# EAGLE library part LED-BAR-GRAPH-10 (library 0_jc-custom-eagle6)
This part is for 10 Segment LED Displays that fit in a dip20 300 mail package.
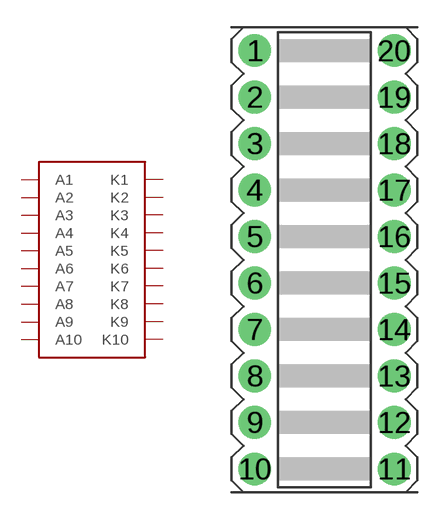
[diagram p1: symbol with the pads of DIP20-0300; footprint DIP20-0300]

Designator prefix STD

## LED-BAR-GRAPH-1010, LED-BAR-GRAPH-10STD10  [DIP20-0300]
1  A1
2  A2
3  A3
4  A4
5  A5
6  A6
7  A7
8  A8
9  A9
10  A10
11  K10
12  K9
13  K8
14  K7
15  K6
16  K5
17  K4
18  K3
19  K2
20  K1

## Footprint DIP20-0300 (pad centres in mm)
Dip 20 300 mil Primarily for LED Bar graph units
drill 0.8 pad 1.778: 1 -3.81,11.43; 2 -3.81,8.89; 3 -3.81,6.35; 4 -3.81,3.81; 5 -3.81,1.27; 6 -3.81,-1.27; 7 -3.81,-3.81; 8 -3.81,-6.35; 9 -3.81,-8.89; 10 -3.81,-11.43; 11 3.81,-11.43; 12 3.81,-8.89; 13 3.81,-6.35; 14 3.81,-3.81; 15 3.81,-1.27; 16 3.81,1.27; 17 3.81,3.81; 18 3.81,6.35; 19 3.81,8.89; 20 3.81,11.43